# Altium footprint library switch5.85.8.PcbLib: 1 footprints
Each footprint in its own frame and in the unit in brackets; x right, y up, seen from the top. Pads: shape width x height; smd on the part's side, far side on the other; paste and mask are expansions set on the pad; w line width, h text height; cw(c..) or ccw(c..) is an arc to the next point about the centre after c.
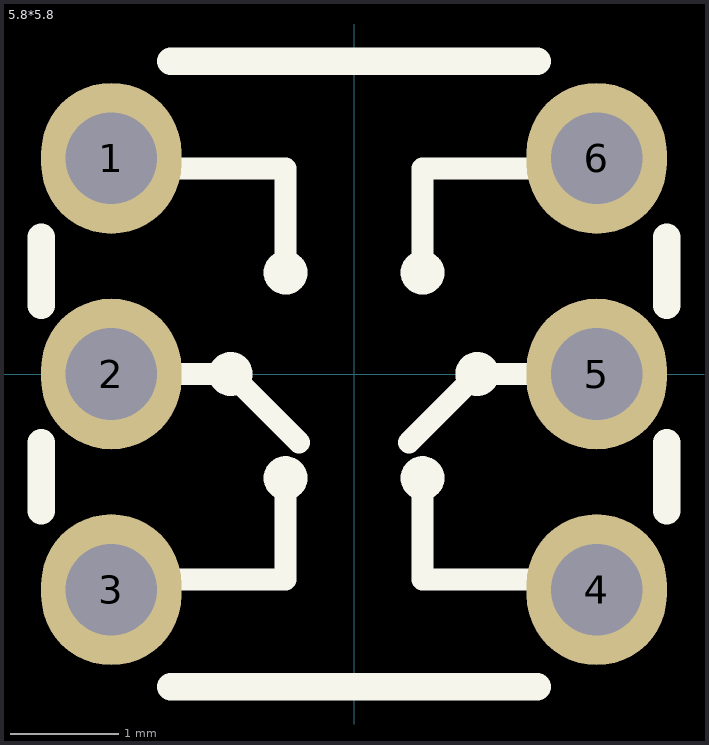
[diagram p0: the footprint, top view; thin cyan lines are the x and y axes]

## 5.8*5.8 [mm]
pads (6):
  oval 1.3x1.4 hole 0.85: 1(-2.25,2) 2(-2.25,0) 3(-2.25,-2) 4(2.25,-2) 5(2.25,0) 6(2.25,2)
Top Overlay:
  circle w0.254: c0.635,0.94 r0.076
  circle w0.254: c-0.635,0.94 r0.076
  circle w0.254: c0.635,-0.965 r0.076
  circle w0.254: c-0.635,-0.965 r0.076
  circle w0.254: c1.143,0 r0.076
  circle w0.254: c-1.143,0 r0.076
  lines w0.203: -2.54,-1.905 -1.524,-1.905 -0.635,-1.905 -0.635,-0.889 ; -2.54,0 -1.143,0 -0.508,-0.635 ; -2.54,1.905 -0.635,1.905 -0.635,1.016 ; 0.508,-0.635 1.143,0 2.54,0 ; 0.635,-0.889 0.635,-1.905 2.54,-1.905 ; 0.635,1.016 0.635,1.905 2.54,1.905
  lines w0.254: -2.9,-1.27 -2.9,-0.635 ; -2.9,0.635 -2.9,1.27 ; -1.7,-2.9 1.7,-2.9 ; -1.7,2.9 1.7,2.9 ; 2.9,-1.27 2.9,-0.635 ; 2.9,0.635 2.9,1.27